# EAGLE library part 750341696 (library Wurth Electronics Midcom Inc - EAGLE Lib V2-1)
Package Style: EE16 Mounting: THT Pins: 7 pins Bobbin: 070-6140 Best pinouts for production vary per application. Please contact Wurth Electronics Midcom, Inc. for assistance with your custom design. Website: Wurth Electronics Midcom <http://www.we-online.com/midcom> Contact us Wurth Electronics Midcom, Inc. 121 Airport Dr. Watertown, SD 57201 Phone: (605) 886-4385 Fax: (605) 886-4486 E-Mail: midcom@we-online.com
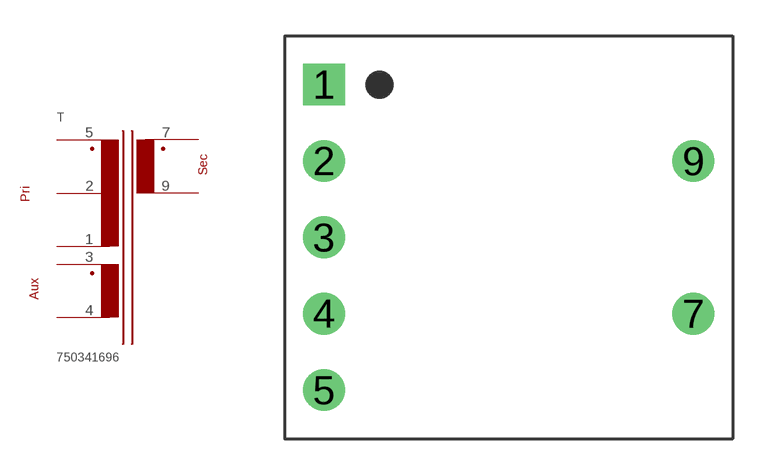
[diagram p131: symbol with the pads of EE16_THT_H_7PIN_(6140); footprint EE16_THT_H_7PIN_(6140)]

Designator prefix T

## 750341696  [EE16_THT_H_7PIN_(6140)]
1  1  pas
2  2  pas
3  3  pas
4  4  pas
5  5  pas
7  7  pas
9  9  pas

## Footprint EE16_THT_H_7PIN_(6140) (pad centres in mm)
Package Style: EE16 Mounting: THT Pins: 10 Bobbin: 070-6140
drill 1.168 square: 1 -7.747,6.401
drill 1.168: 2 -7.747,3.2; 3 -7.747,0; 4 -7.747,-3.2; 5 -7.747,-6.401; 7 7.747,-3.2; 9 7.747,3.2